# Altium integrated library REG_THRU.IntLib: 1 symbol
Pins are listed as number, name and electrical type; pins without a type are passive.

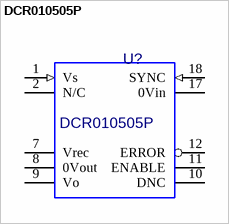
[diagram p0: symbol DCR010505P]

## DCR010505P
designator U?  value DCR010505P  (hidden comment: *)
IC, DCR010505P; PartNumber: 15658-0573; ECAD_Revision: 1; Librarian: US; Item: *; HelpURL: K:\ACCELEDA\PDF Spec Files\Regulators\DCR010505.PDF
footprint DIP18/10
pins: 1 Vs (in), 2 N/C, 7 Vrec, 8 0Vout, 9 Vo, 10 DNC, 11 ENABLE, 12 ERROR, 17 0Vin, 18 SYNC (in)